# Altium footprint library SOIC.PcbLib: 2 footprints
Each footprint in its own frame and in the unit in brackets; x right, y up, seen from the top. Pads: shape width x height; smd on the part's side, far side on the other; paste and mask are expansions set on the pad; w line width, h text height; cw(c..) or ccw(c..) is an arc to the next point about the centre after c.
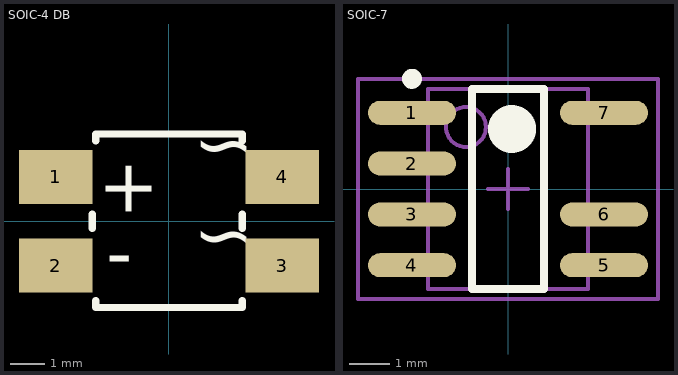
[diagram p0: the footprints below, top view; thin cyan lines are the x and y axes]

## SOIC-4 DB [mm] "SOIC-4 Diodes Bridge"
pads (4):
  rect 2.1x1.55 smd: 1(-3.25,1.27) 2(-3.25,-1.27) 3(3.25,-1.27) 4(3.25,1.27)
Top Overlay:
  lines w0.203: -2.2,-0.2 -2.2,0.2 ; -2.1,-2.275 -2.1,-2.475 2.1,-2.475 2.1,-2.275 ; -2.1,2.3 -2.1,2.5 2.1,2.5 2.1,2.3 ; 2.1,-0.2 2.1,0.2
  text "~" at 0.7,2.8 h1.52
  text "~" at 0.7,0.2 h1.52
  text "-" at -1.8,-0.5 h1.52
  text "+" at -0.5,1.8 h1.52
3D body "User Library-Bridge SMD TO-269AA MB6S.step": height 2.91, standoff 0, extent -3.52,-2.475 3.52,2.475

## SOIC-7 [mm] "SOIC, 8-Leads, Body 5.0x4.0mm (max), Pitch 1.27mm, IPC Medium Density"
height 1.75
pads (7):
  oval 2.2x0.6 smd: 1(-2.4,1.905) 2(-2.4,0.635) 3(-2.4,-0.635) 4(-2.4,-1.905) 5(2.4,-1.905) 6(2.4,-0.635) 7(2.4,1.905)
Top Overlay:
  circle w0.6: c0.1,1.5 r0.3
  circle w0.25: c-2.4,2.755 r0.125
  lines w0.2: -0.9,-2.5 0.9,-2.5 0.9,2.5 -0.9,2.5 -0.9,-2.5
Mechanical 13:
  circle w0.1: c-1.05,1.55 r0.5
  lines w0.1: -2,-2.5 2,-2.5 2,2.5 -2,2.5 -2,-2.5
Mechanical 15:
  lines w0.1: -0.5,0 0.5,0 ; 0,-0.5 0,0.5 ; -3.75,-2.75 3.75,-2.75 3.75,2.75 -3.75,2.75 -3.75,-2.75
3D body "SOIC-7.STEP": height 1.75, standoff 0, extent -3,-2.45 3,2.45